# Altium footprint library 39012025.PcbLib: 1 footprints
Each footprint in its own frame and in the unit in brackets; x right, y up, seen from the top. Pads: shape width x height; smd on the part's side, far side on the other; paste and mask are expansions set on the pad; w line width, h text height; cw(c..) or ccw(c..) is an arc to the next point about the centre after c.
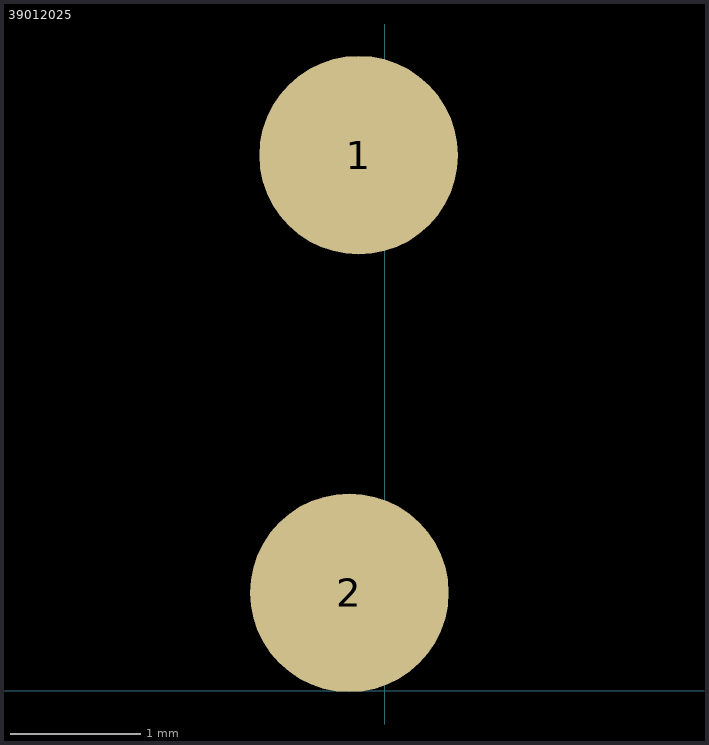
[diagram p0: the footprint, top view; thin cyan lines are the x and y axes]

## 39012025 [mil]
pads (2):
  round 60 all layers, no hole: 1(-7.9,161.73) 2(-10.71,29.58)
3D body "39012025.stp": height 350.39, standoff -421.26, extent -126.08,-229.78 86.51,337.14